# Altium schematic symbol library SCH - RELAY - PANASONIC APAN31NN PA-N.SCHLIB: 1 symbol
Pins are listed as number, name and electrical type; pins without a type are passive.

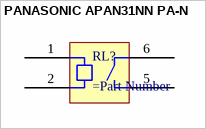
[diagram p0: symbol PANASONIC APAN31NN PA-N]

## PANASONIC APAN31NN PA-N
designator RL?
pins: 1 COIL1, 2 COIL2, 5 TERM1, 6 TERM2